# EAGLE library part SW_ROT_1P6T (library wheat)
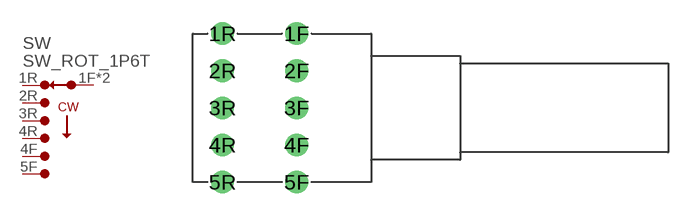
[diagram p254: symbol with the pads of SW_ROT_SR100; footprint SW_ROT_SR100]

Designator prefix SW

## SW_ROT_1P6T  [SW_ROT_SR100]
1F  C  pas
1R  1  pas
2R  2  pas
3R  3  pas
4F  5  pas
4R  4  pas
5F  6  pas
5R  C  pas

## Footprint SW_ROT_SR100 (pad centres in mm)
Swicth, rotary, Taiwan Alpha SR10010F
drill 1.016: 1F -5,5; 1R -10,5; 2F -5,2.5; 2R -10,2.5; 3F -5,0; 3R -10,0; 4F -5,-2.5; 4R -10,-2.5; 5F -5,-5; 5R -10,-5